# Altium footprint library 51常用（1）.PcbLib: 20 footprints (part 1 of 2)
Each footprint in its own frame and in the unit in brackets; x right, y up, seen from the top. Pads: shape width x height; smd on the part's side, far side on the other; paste and mask are expansions set on the pad; w line width, h text height; cw(c..) or ccw(c..) is an arc to the next point about the centre after c.
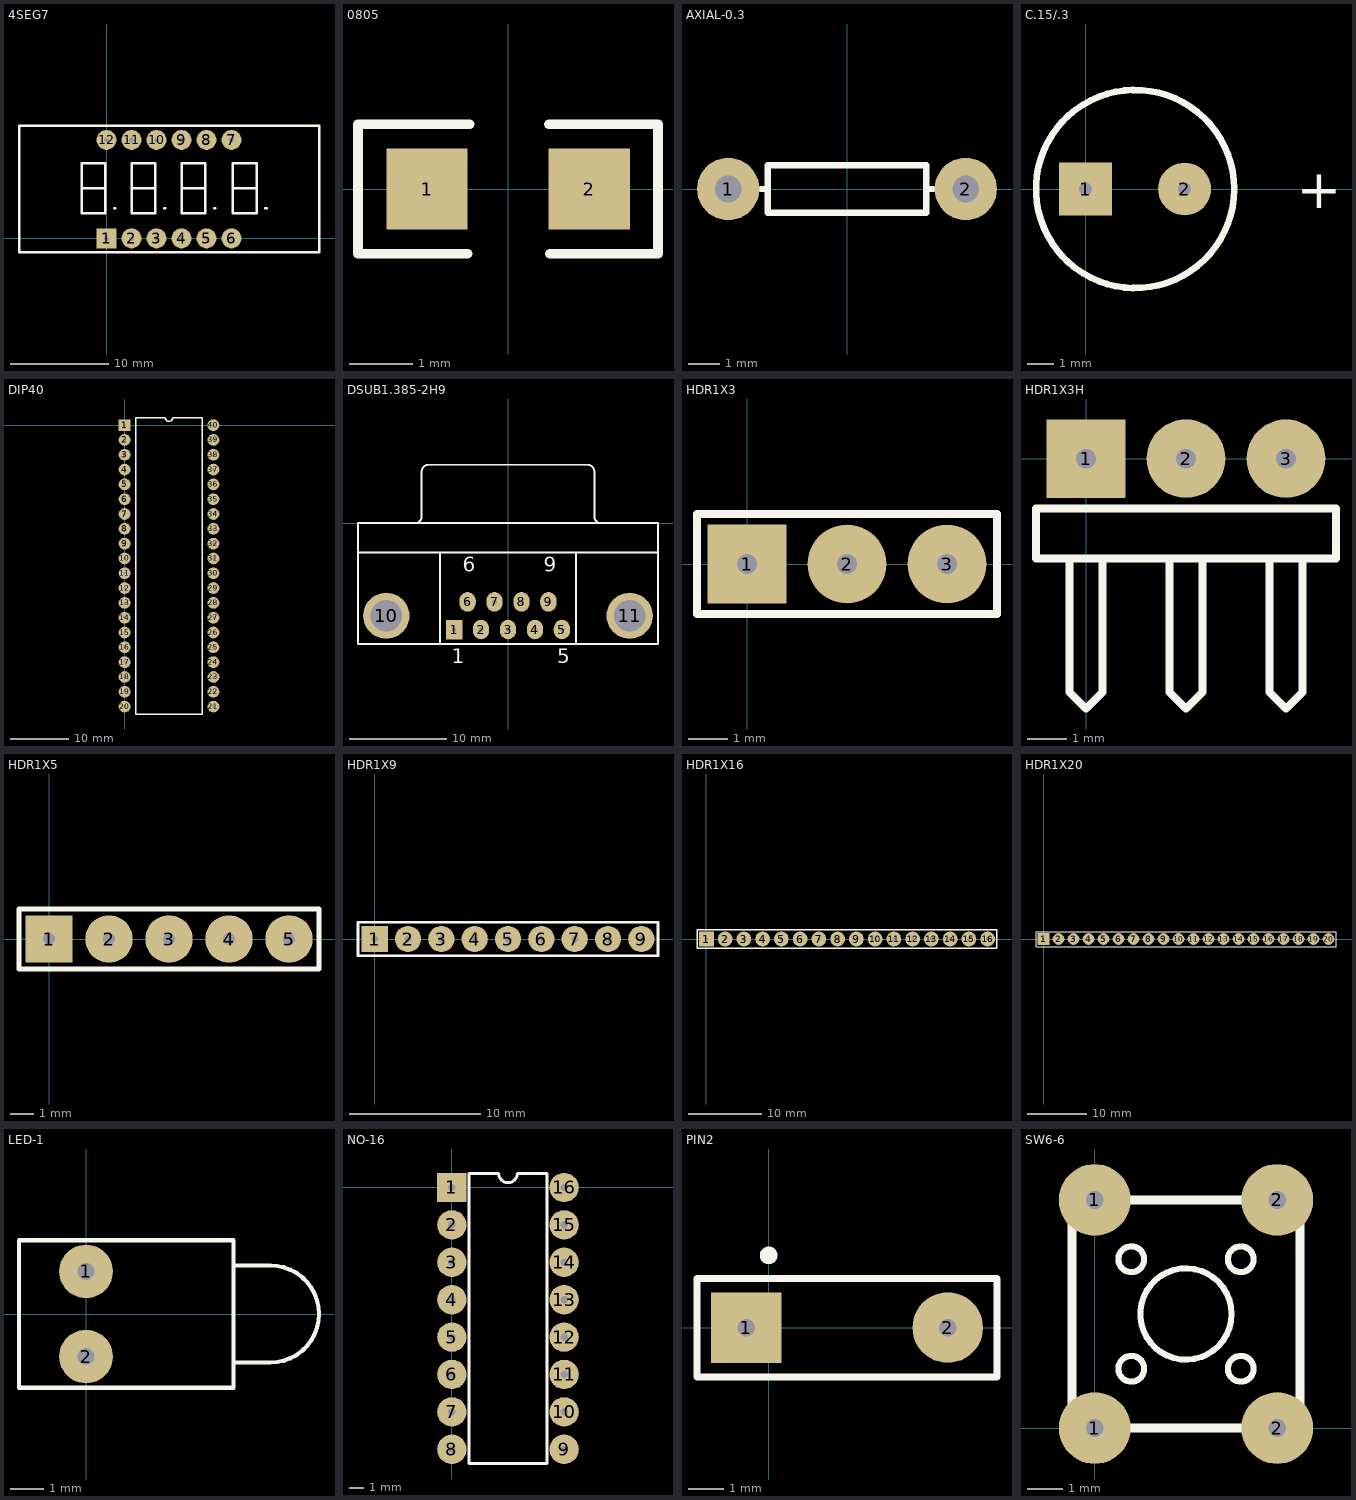
[diagram p0: the footprints below, top view; thin cyan lines are the x and y axes]

## 4SEG7 [mil]
pads (12):
  rect 78.74x80 hole 20: 1(0,0)
  oval 78.74x80 hole 20: 2(100,0) 3(200,0) 4(300,0) 5(400,0) 6(500,0) 7(500,393.7) 8(400,393.7) 9(300,393.7) 10(200,393.7) 11(100,393.7) 12(0,393.7)
Top Overlay:
  lines w10: -100,200 -5,200 ; 30,120 35,120 ; 100,200 195,200 ; 230,120 235,120 ; 300,200 395,200 ; 430,120 435,120 ; 505,200 600,200 ; 635,120 640,120 ; -350,-55 850,-55 850,450 -350,450 -350,-55 ; -100,100 -5,100 -5,300 -100,300 -100,100 ; 100,100 100,300 195,300 195,100 100,100 ; 300,100 300,300 395,300 395,100 300,100 ; 505,100 505,300 600,300 600,100 505,100

## 0805 [mm]
pads (2):
  rect 1.27x1.27 smd: 1(-1.27,0) 2(1.27,0)
Top Overlay:
  lines w0.152: -0.638,-1.016 -2.286,-1.016 -2.355,-1.016 -2.355,1.016 -2.159,1.016 -0.608,1.016 ; 0.64,1.016 2.286,1.016 2.348,1.016 2.348,-1.016 2.286,-1.016 0.649,-1.016

## AXIAL-0.3 [mm]
height 1.524
pads (2):
  round 2 hole 0.85: 1(-3.81,0) 2(3.81,0)
Top Overlay:
  lines w0.2: -2.769,0 -2.54,0 ; 2.769,0 2.54,0 ; 2.54,0 2.54,-0.762 -2.54,-0.762 -2.54,0.762 2.54,0.762 2.54,0

## C.15/.3 [mil]
pads (2):
  rect 80x80 hole 19.68: 1(0,0)
  round 80 hole 19.68: 2(150,0)
Top Overlay:
  circle w10: c75,0 r150
  text "+" at 320.15,-29.01 h59.06

## DIP40 [mil]
pads (40):
  rect 80x78.74 hole 20: 1(0,0)
  oval 80x78.74 hole 20: 2(0,-100) 3(0,-200) 4(0,-300) 5(0,-400) 6(0,-500) 7(0,-600) 8(0,-700) 9(0,-800) 10(0,-900) 11(0,-1000) 12(0,-1100) 13(0,-1200) 14(0,-1300) 15(0,-1400) 16(0,-1500) 17(0,-1600) 18(0,-1700) 19(0,-1800) 20(0,-1900) 21(600,-1900) 22(600,-1800) 23(600,-1700) 24(600,-1600) 25(600,-1500) 26(600,-1400) 27(600,-1300) 28(600,-1200) 29(600,-1100) 30(600,-1000) 31(600,-900) 32(600,-800) 33(600,-700) 34(600,-600) 35(600,-500) 36(600,-400) 37(600,-300) 38(600,-200) 39(600,-100) 40(600,0)
Top Overlay:
  lines w10: 75,-1950 525,-1950 525,50 325,50 cw(c300,50) 275,50 75,50 75,-1950

## DSUB1.385-2H9 [mm] "Connector; D Subminiature; 9 Position; Right Angle; Pitch 1.385 mm"
height 12.75
pads (11):
  rect 1.69x2 hole 0.5: 1(-5.54,-10.92)
  oval 1.69x2 hole 0.5: 2(-2.77,-10.92) 3(0,-10.92) 4(2.77,-10.92) 5(5.54,-10.92) 6(-4.155,-8.08) 7(-1.385,-8.08) 8(1.385,-8.08) 9(4.155,-8.08)
  round 4.76 hole 3.26: 10(-12.495,-9.5) 11(12.495,-9.5)
Top Overlay:
  lines w0.2: -15.4,-3 15.4,-3 ; -9.56,0.005 ccw(c-9.56,0.7) -8.865,0.7 -8.865,5.3 ; -8.86,5.305 cw(c-8.165,5.305) -8.165,6 8.165,6 cw(c8.165,5.305) 8.86,5.305 ; -7,-12.4 -7,-3 ; 7,-12.4 7,-3 ; 8.865,5.3 8.865,0.7 ccw(c9.56,0.7) 9.56,0.005 ; -15.4,-12.4 15.4,-12.4 15.4,0 -15.4,0 -15.4,-12.4
  text "6" at -4.655,-4.975 h1.5
  text "9" at 3.655,-4.975 h1.5
  text "5" at 5.04,-14.375 h1.5
  text "1" at -5.79,-14.375 h1.5

## HDR1X3 [mm]
pads (3):
  rect 2x2 hole 0.5: 1(0,0)
  round 2 hole 0.5: 2(2.54,0) 3(5.08,0)
Top Overlay:
  lines w0.2: -1.27,-1.27 -1.27,1.27 6.35,1.27 6.35,-1.27 -1.27,-1.27

## HDR1X3H [mm] "Connector; Header; 3 Position; Right Angle"
pads (3):
  rect 2x2 hole 0.5: 1(0,0)
  round 2 hole 0.5: 2(2.54,0) 3(5.08,0)
Top Overlay:
  lines w0.2: -0.423,-2.54 -0.423,-5.927 0,-6.35 0.423,-5.927 0.423,-2.54 ; 2.117,-2.54 2.117,-5.927 2.54,-6.35 2.963,-5.927 2.963,-2.54 ; 4.657,-2.54 4.657,-5.927 5.08,-6.35 5.503,-5.927 5.503,-2.54 ; -1.27,-2.54 6.35,-2.54 6.35,-1.27 -1.27,-1.27 -1.27,-2.54

## HDR1X5 [mm] "Connector; Header; 5 Position"
pads (5):
  rect 2x2 hole 0.5: 1(0,0)
  round 2 hole 0.5: 2(2.54,0) 3(5.08,0) 4(7.62,0) 5(10.16,0)
Top Overlay:
  lines w0.2: -1.27,-1.27 -1.27,1.27 11.43,1.27 11.43,-1.27 -1.27,-1.27

## HDR1X9 [mm] "Connector; Header; 9 Position"
pads (9):
  rect 2x2 hole 0.5: 1(0,0)
  round 2 hole 0.5: 2(2.54,0) 3(5.08,0) 4(7.62,0) 5(10.16,0) 6(12.7,0) 7(15.24,0) 8(17.78,0) 9(20.32,0)
Top Overlay:
  lines w0.2: -1.27,-1.27 21.59,-1.27 21.59,1.27 -1.27,1.27 -1.27,-1.27

## HDR1X16 [mm] "Connector; Header; 16 Position"
pads (16):
  rect 2x2 hole 0.5: 1(0,0)
  round 2 hole 0.5: 2(2.54,0) 3(5.08,0) 4(7.62,0) 5(10.16,0) 6(12.7,0) 7(15.24,0) 8(17.78,0) 9(20.32,0) 10(22.86,0) 11(25.4,0) 12(27.94,0) 13(30.48,0) 14(33.02,0) 15(35.56,0) 16(38.1,0)
Top Overlay:
  lines w0.2: -1.27,-1.27 39.37,-1.27 39.37,1.27 0.635,1.27 -1.27,1.27 -1.27,-1.27

## HDR1X20 [mm] "Connector; Header; 20 Position"
pads (20):
  rect 2x2 hole 0.5: 1(0,0)
  round 2 hole 0.5: 2(2.54,0) 3(5.08,0) 4(7.62,0) 5(10.16,0) 6(12.7,0) 7(15.24,0) 8(17.78,0) 9(20.32,0) 10(22.86,0) 11(25.4,0) 12(27.94,0) 13(30.48,0) 14(33.02,0) 15(35.56,0) 16(38.1,0) 17(40.64,0) 18(43.18,0) 19(45.72,0) 20(48.26,0)
Top Overlay:
  lines w0.2: -1.27,-1.27 49.53,-1.27 49.53,1.27 0.635,1.27 -1.27,1.27 -1.27,-1.27

## LED-1 [mm] "Typical RED GaAs LED; 2 Leads"
pads (2):
  round 1.6 hole 0.5: 1(0,1.27) 2(0,-1.27)
Top Overlay:
  lines w0.127: 4.4,-1.45 5.5,-1.45 ccw(c5.5,0) 5.5,1.45 4.4,1.45 ; -2,-2.2 -2,2.2 4.4,2.2 4.4,-2.2 -2,-2.2

## NO-16 [mm]
pads (16):
  rect 2x2 hole 0.5: 1(0,0)
  round 2 hole 0.5: 2(0,-2.54) 3(0,-5.08) 4(0,-7.62) 5(0,-10.16) 6(0,-12.7) 7(0,-15.24) 8(0,-17.78) 9(7.62,-17.78) 10(7.62,-15.24) 11(7.62,-12.7) 12(7.62,-10.16) 13(7.62,-7.62) 14(7.62,-5.08) 15(7.62,-2.54) 16(7.62,0)
Top Overlay:
  lines w0.2: 1.16,-18.74 6.46,-18.74 6.46,0.96 4.445,0.96 cw(c3.81,0.96) 3.175,0.96 1.16,0.96 1.16,-18.74

## PIN2 [mm] "Photo"
pads (2):
  rect 2x2 hole 0.5: 1(-0.635,0)
  round 2 hole 0.5: 2(5.08,0)
Top Overlay:
  circle w0.25: c0,2.05 r0.125
  lines w0.2: -2.032,-1.4 6.477,-1.4 6.477,1.4 -2.032,1.4 -2.032,-1.4

## SW6-6 [mm]
pads (4):
  round 2 hole 0.5: 1(0,0) 1(0,6.35) 2(5.08,0) 2(5.08,6.35)
Top Overlay:
  circle w0.17: c1.016,4.699 r0.359
  circle w0.17: c4.064,4.699 r0.359
  circle w0.17: c4.064,1.651 r0.359
  circle w0.17: c1.016,1.651 r0.359
  circle w0.17: c2.54,3.175 r1.27
  lines w0.254: -0.635,0 -0.635,6.35 5.715,6.35 5.715,0 -0.635,0